# EAGLE library part MCP4725BREAKOUT (library spietz-library)
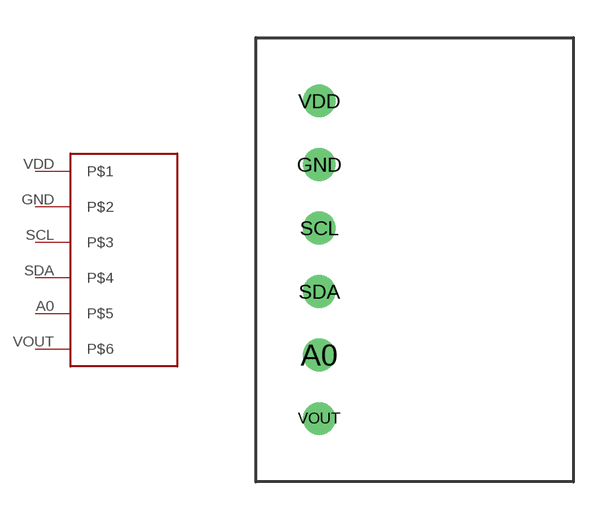
[diagram p4: symbol with the pads of MCP4725BREAKOUT; footprint MCP4725BREAKOUT]

Designator prefix -

## MCP4725BREAKOUT  [MCP4725BREAKOUT]
A0  P$5
GND  P$2
SCL  P$3
SDA  P$4
VDD  P$1
VOUT  P$6

## Footprint MCP4725BREAKOUT (pad centres in mm)
drill 0.8: A0 0,2.54; GND 0,10.16; SCL 0,7.62; SDA 0,5.08; VDD 0,12.7; VOUT 0,0